# Altium footprint library 532610371.PcbLib: 3 footprints
Each footprint in its own frame and in the unit in brackets; x right, y up, seen from the top. Pads: shape width x height; smd on the part's side, far side on the other; paste and mask are expansions set on the pad; w line width, h text height; cw(c..) or ccw(c..) is an arc to the next point about the centre after c.
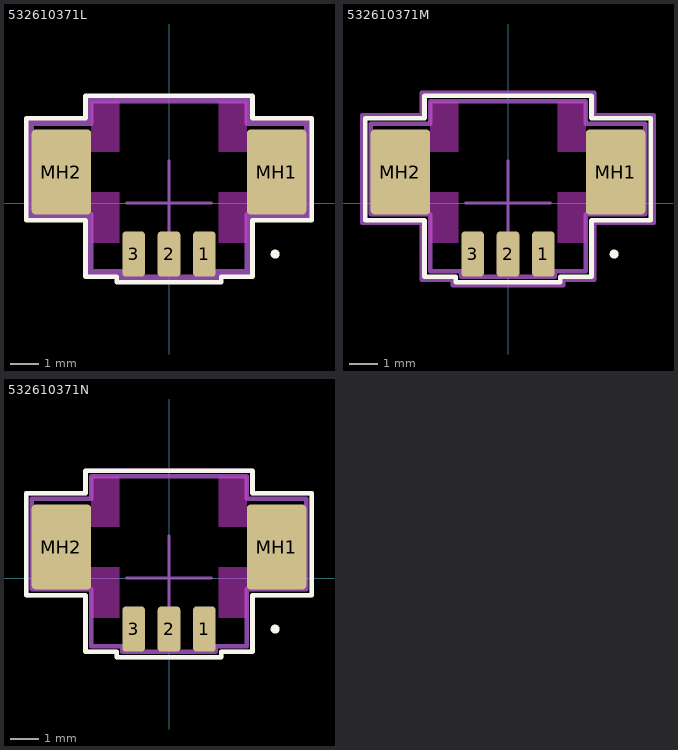
[diagram p0: the footprints below, top view; thin cyan lines are the x and y axes]

## 532610371L [mm] "Molex PicoBlade 3-Pin Right-Angle Connector with Tin Coating"
height 3.4
pads (5):
  rrect31% 0.8x1.6 smd: 1(1.25,-1.8) 2(0,-1.8) 3(-1.25,-1.8)
  rrect12% 2.1x3 smd: MH1(3.8,1.1) MH2(-3.8,1.1)
Top Layer keep-out:
  rectangle: -2.75,3.6 -1.75,1.8
  rectangle: 2.75,3.6 1.75,1.8
  rectangle: -2.75,-1.4 -1.75,0.4
  rectangle: 2.75,-1.4 1.75,0.4
Top Overlay:
  circle w0.16: c3.75,-1.8 r0.08
  lines w0.16: -5.05,-0.6 -2.95,-0.6 -2.95,-2.6 -1.85,-2.6 -1.85,-2.8 1.85,-2.8 1.85,-2.6 2.95,-2.6 2.95,-0.6 5.05,-0.6 5.05,3 2.95,3 2.95,3.8 -2.95,3.8 -2.95,3 -5.05,3 -5.05,-0.6
Top Component Center:
  lines w0.1: -1.5,0 1.5,0 ; 0,-1.5 0,1.5
Top Courtyard:
  lines w0.16: -4.95,-0.5 -2.85,-0.5 -2.85,-2.5 -1.75,-2.5 -1.75,-2.7 1.75,-2.7 1.75,-2.5 2.85,-2.5 2.85,-0.5 4.95,-0.5 4.95,2.9 2.85,2.9 2.85,3.7 -2.85,3.7 -2.85,2.9 -4.95,2.9 -4.95,-0.5
Top Assembly:
  lines w0.16: -4.85,-0.4 -2.75,-0.4 -2.75,-2.4 -1.65,-2.4 -1.65,-2.6 1.65,-2.6 1.65,-2.4 2.75,-2.4 2.75,-0.4 4.85,-0.4 4.85,2.8 2.75,2.8 2.75,3.6 -2.75,3.6 -2.75,2.8 -4.85,2.8 -4.85,-0.4
3D body "532610371L.STEP": height 3.4, standoff 0, extent -4.45,-2 4.45,3.2

## 532610371M [mm] "Molex PicoBlade 3-Pin Right-Angle Connector with Tin Coating"
height 3.4
pads (5):
  rrect31% 0.8x1.6 smd: 1(1.25,-1.8) 2(0,-1.8) 3(-1.25,-1.8)
  rrect12% 2.1x3 smd: MH1(3.8,1.1) MH2(-3.8,1.1)
Top Layer keep-out:
  rectangle: -2.75,3.6 -1.75,1.8
  rectangle: 2.75,3.6 1.75,1.8
  rectangle: -2.75,-1.4 -1.75,0.4
  rectangle: 2.75,-1.4 1.75,0.4
Top Overlay:
  circle w0.16: c3.75,-1.8 r0.08
  lines w0.16: -5.05,-0.6 -2.95,-0.6 -2.95,-2.6 -1.85,-2.6 -1.85,-2.8 1.85,-2.8 1.85,-2.6 2.95,-2.6 2.95,-0.6 5.05,-0.6 5.05,3 2.95,3 2.95,3.8 -2.95,3.8 -2.95,3 -5.05,3 -5.05,-0.6
Top Component Center:
  lines w0.1: -1.5,0 1.5,0 ; 0,-1.5 0,1.5
Top Courtyard:
  lines w0.16: -5.15,-0.7 -3.05,-0.7 -3.05,-2.7 -1.95,-2.7 -1.95,-2.9 1.95,-2.9 1.95,-2.7 3.05,-2.7 3.05,-0.7 5.15,-0.7 5.15,3.1 3.05,3.1 3.05,3.9 -3.05,3.9 -3.05,3.1 -5.15,3.1 -5.15,-0.7
Top Assembly:
  lines w0.16: -4.85,-0.4 -2.75,-0.4 -2.75,-2.4 -1.65,-2.4 -1.65,-2.6 1.65,-2.6 1.65,-2.4 2.75,-2.4 2.75,-0.4 4.85,-0.4 4.85,2.8 2.75,2.8 2.75,3.6 -2.75,3.6 -2.75,2.8 -4.85,2.8 -4.85,-0.4
3D body "532610371M.STEP": height 3.4, standoff 0, extent -4.45,-2 4.45,3.2

## 532610371N [mm] "Molex PicoBlade 3-Pin Right-Angle Connector with Tin Coating"
height 3.4
pads (5):
  rrect31% 0.8x1.6 smd: 1(1.25,-1.8) 2(0,-1.8) 3(-1.25,-1.8)
  rrect12% 2.1x3 smd: MH1(3.8,1.1) MH2(-3.8,1.1)
Top Layer keep-out:
  rectangle: -2.75,3.6 -1.75,1.8
  rectangle: 2.75,3.6 1.75,1.8
  rectangle: -2.75,-1.4 -1.75,0.4
  rectangle: 2.75,-1.4 1.75,0.4
Top Overlay:
  circle w0.16: c3.75,-1.8 r0.08
  lines w0.16: -5.05,-0.6 -2.95,-0.6 -2.95,-2.6 -1.85,-2.6 -1.85,-2.8 1.85,-2.8 1.85,-2.6 2.95,-2.6 2.95,-0.6 5.05,-0.6 5.05,3 2.95,3 2.95,3.8 -2.95,3.8 -2.95,3 -5.05,3 -5.05,-0.6
Top Component Center:
  lines w0.1: -1.5,0 1.5,0 ; 0,-1.5 0,1.5
Top Courtyard:
  lines w0.16: -5.05,-0.6 -2.95,-0.6 -2.95,-2.6 -1.85,-2.6 -1.85,-2.8 1.85,-2.8 1.85,-2.6 2.95,-2.6 2.95,-0.6 5.05,-0.6 5.05,3 2.95,3 2.95,3.8 -2.95,3.8 -2.95,3 -5.05,3 -5.05,-0.6
Top Assembly:
  lines w0.16: -4.85,-0.4 -2.75,-0.4 -2.75,-2.4 -1.65,-2.4 -1.65,-2.6 1.65,-2.6 1.65,-2.4 2.75,-2.4 2.75,-0.4 4.85,-0.4 4.85,2.8 2.75,2.8 2.75,3.6 -2.75,3.6 -2.75,2.8 -4.85,2.8 -4.85,-0.4
3D body "532610371N.STEP": height 3.4, standoff 0, extent -4.45,-2 4.45,3.2